# Altium schematic symbol library Relays.SchLib: 5 symbols
Pins are listed as number, name and electrical type; pins without a type are passive.

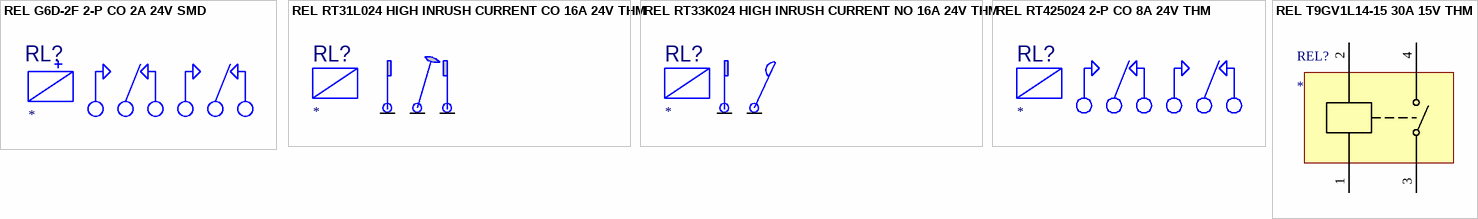
[diagram p0: symbols REL G6D-2F 2-P CO 2A 24V SMD to REL T9GV1L14-15 30A 15V THM]

## REL G6D-2F 2-P CO 2A 24V SMD
designator RL?
=Description
pins: 1, 2, 3, 4, 5, 6, 7, 8

## REL RT31L024 HIGH INRUSH CURRENT CO 16A 24V THM
designator RL?
=Description
pins: 1, 2, 3, 4, 5, 6, 7, 8

## REL RT33K024 HIGH INRUSH CURRENT NO 16A 24V THM
designator RL?
=Description
pins: 1, 2, 3, 4, 5, 6

## REL RT425024 2-P CO 8A 24V THM
designator RL?
=Description
pins: 1, 2, 3, 4, 5, 6, 7, 8

## REL T9GV1L14-15 30A 15V THM
designator REL?
=Description
pins: 1, 2, 3, 4